# EAGLE library part SFV23 (library HedgehogLib)
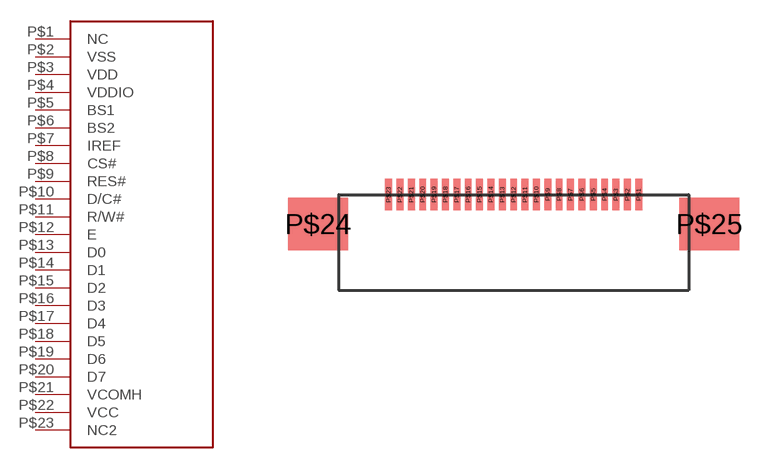
[diagram p5: symbol with the pads of SFV23; footprint SFV23]

Designator prefix -

## SFV23  [SFV23]
P$1  NC
P$2  VSS
P$3  VDD
P$4  VDDIO
P$5  BS1
P$6  BS2
P$7  IREF
P$8  CS#
P$9  RES#
P$10  D/C#
P$11  R/W#
P$12  E
P$13  D0
P$14  D1
P$15  D2
P$16  D3
P$17  D4
P$18  D5
P$19  D6
P$20  D7
P$21  VCOMH
P$22  VCC
P$23  NC2

## Footprint SFV23 (pad centres in mm)
smd 0.3 x 1.4: P$1 5.5,1; P$2 5,1; P$3 4.5,1; P$4 4,1; P$5 3.5,1; P$6 3,1; P$7 2.5,1; P$8 2,1; P$9 1.5,1; P$10 1,1; P$11 0.5,1; P$12 0,1; P$13 -0.5,1; P$14 -1,1; P$15 -1.5,1; P$16 -2,1; P$17 -2.5,1; P$18 -3,1; P$19 -3.5,1; P$20 -4,1; P$21 -4.5,1; P$22 -5,1; P$23 -5.5,1
smd 2.65 x 2.3: P$24 -8.6,-0.3; P$25 8.6,-0.3